# Altium schematic symbol library Res_Cement_Sch.SchLib: 1 symbol
Pins are listed as number, name and electrical type; pins without a type are passive.

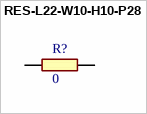
[diagram p0: symbol RES-L22-W10-H10-P28]

## RES-L22-W10-H10-P28
designator R?, comment 0
RES. CEMENT WIREWOUND THT; Power: 5W; Tolerance: 5%; Pitch: 28; Resistance: 0; Length: 22; Width: 10; Height: 10; Mounting: THT Axial; ComponentLink1Description: Link; ComponentLink1URL: *
footprint RES-CEMENT-L22-W10-P28
pins: 1 NC, 2 NC